# Altium footprint library Photon.PcbLib: 7 footprints
Each footprint in its own frame and in the unit in brackets; x right, y up, seen from the top. Pads: shape width x height; smd on the part's side, far side on the other; paste and mask are expansions set on the pad; w line width, h text height; cw(c..) or ccw(c..) is an arc to the next point about the centre after c.
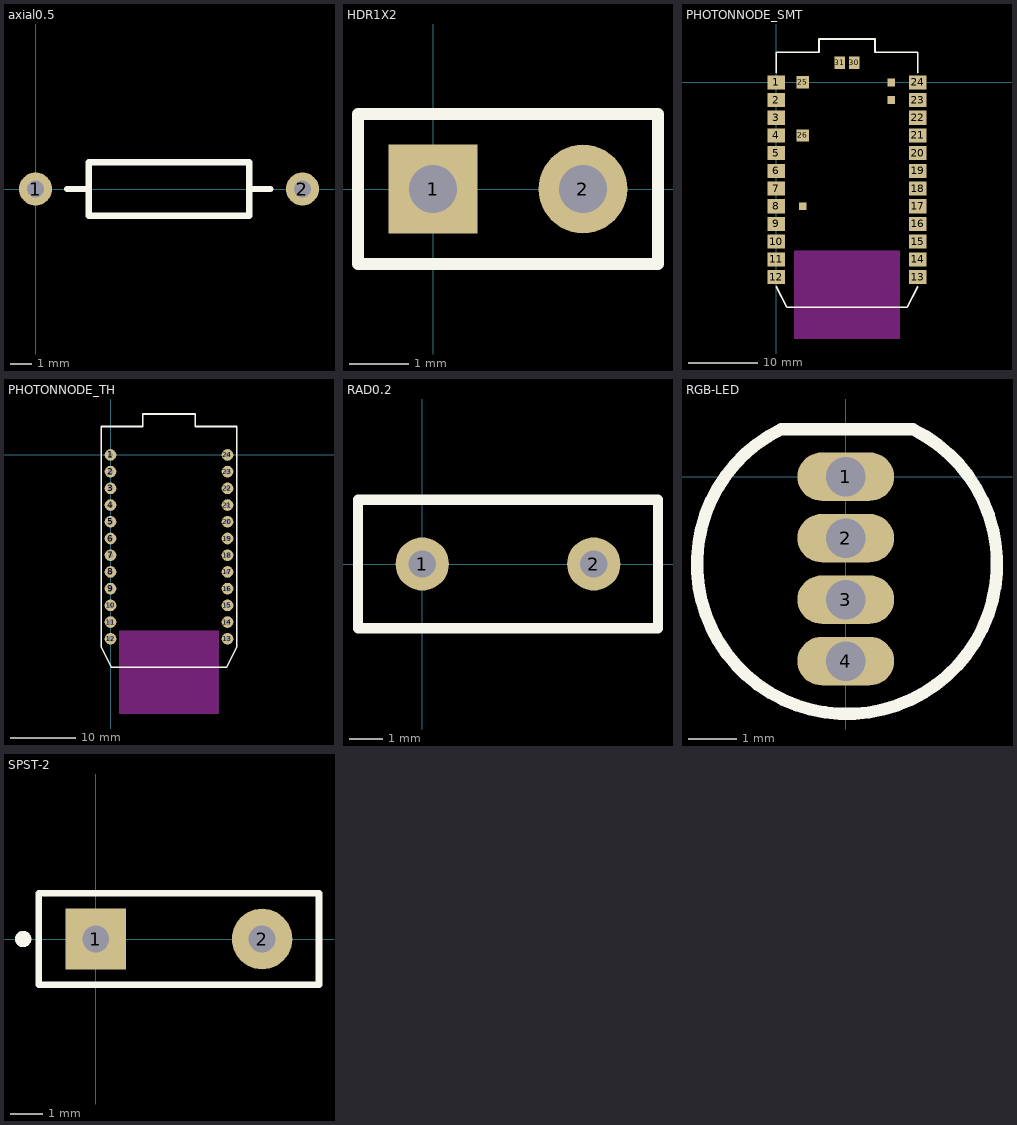
[diagram p0: the footprints below, top view; thin cyan lines are the x and y axes]

## axial0.5 [mil]
pads (2):
  round 62 hole 32: 1(0,0) 2(500,0)
Top Overlay:
  lines w12: 59,0 100,0 ; 401,0 440,0 ; 100,-50 100,50 400,50 400,-50 100,-50

## HDR1X2 [mm]
pads (2):
  rect 1.5x1.5 hole 0.813: 1(0,0)
  round 1.5 hole 0.813: 2(2.54,0)
Top Overlay:
  lines w0.2: -1.27,-1.27 3.81,-1.27 3.81,1.27 -1.27,1.27 -1.27,-1.27

## PHOTONNODE_SMT [mil]
pads (31):
  rect 100x80 smd: 1(0,0) 2(0,-100) 3(0,-200) 4(0,-300) 5(0,-400) 6(0,-500) 7(0,-600) 8(0,-700) 9(0,-800) 10(0,-900) 11(0,-1000) 12(0,-1100) 13(800,-1100) 14(800,-1000) 15(800,-900) 16(800,-800) 17(800,-700) 18(800,-600) 19(800,-500) 20(800,-400) 21(800,-300) 22(800,-200) 23(800,-100) 24(800,0)
  rect 70x70 smd: 25(150,0) 26(150,-300)
  rect 45x45 smd: 27(150,-700) 28(650,-100) 29(650,0)
  rect 60x70 smd: 30(440,110) 31(360,110)
Top Overlay:
  lines w10: 0,-1155 60,-1270 740,-1270 800,-1155 ; 0,55 0,170 242,170 242,245 558,245 558,170 800,170 800,55
Keep-Out Layer:
  rectangle: 100,-1450 700,-950

## PHOTONNODE_TH [mil]
pads (24):
  round 70 hole 32: 1(0,0) 2(0,-100) 3(0,-200) 4(0,-300) 5(0,-400) 6(0,-500) 7(0,-600) 8(0,-700) 9(0,-800) 10(0,-900) 11(0,-1000) 12(0,-1100) 13(700,-1100) 14(700,-1000) 15(700,-900) 16(700,-800) 17(700,-700) 18(700,-600) 19(700,-500) 20(700,-400) 21(700,-300) 22(700,-200) 23(700,-100) 24(700,0)
Top Overlay:
  lines w10: -55,-1150 -55,170 192,170 192,245 508,245 508,170 755,170 755,-1150 695,-1270 5,-1270 -55,-1150
Keep-Out Layer:
  rectangle: 50,-1550 650,-1050

## RAD0.2 [mil]
pads (2):
  round 62 hole 32: 1(0,0) 2(200,0)
Top Overlay:
  lines w12: -75,-75 -75,75 275,75 275,-75 -75,-75

## RGB-LED [mm]
pads (4):
  oval 2x1 hole 0.813: 1(0,0) 2(0,-1.27) 3(0,-2.54) 4(0,-3.81)
Top Overlay:
  lines w0.254: -1.332,0.984 ccw(c0.025,-1.803) 1.388,0.981 -1.332,0.984

## SPST-2 [mm] "Switch; 2 Leads"
pads (2):
  rect 1.85x1.85 hole 0.813: 1(0,0)
  round 1.85 hole 0.813: 2(5.08,0)
Top Overlay:
  circle w0.25: c-2.221,-0.001 r0.125
  lines w0.2: -1.74,-1.397 6.82,-1.397 6.82,1.397 -1.74,1.397 -1.74,-1.397